# Altium footprint library SG__PCB_HOLEs.PcbLib: 39 footprints (part 3 of 3)
Each footprint in its own frame and in the unit in brackets; x right, y up, seen from the top. Pads: shape width x height; smd on the part's side, far side on the other; paste and mask are expansions set on the pad; w line width, h text height; cw(c..) or ccw(c..) is an arc to the next point about the centre after c.
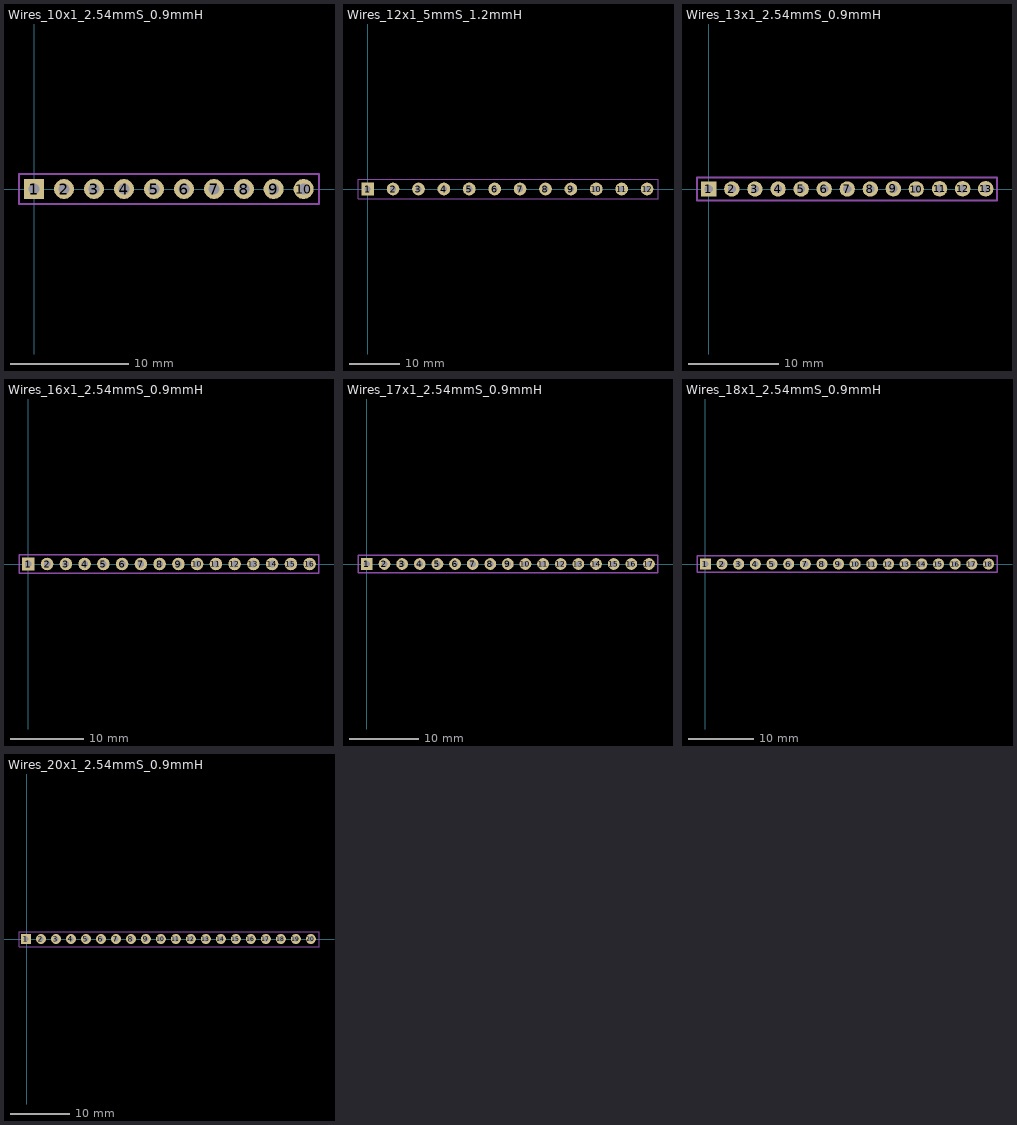
[diagram p2: the footprints below, top view; thin cyan lines are the x and y axes]

## Wires_10x1_2.54mmS_0.9mmH [mm]
pads (10):
  rect 1.7x1.7 hole 0.9: 1(0,0)
  round 1.7 hole 0.9: 2(2.54,0) 3(5.08,0) 4(7.62,0) 5(10.16,0) 6(12.7,0) 7(15.24,0) 8(17.78,0) 9(20.29,0) 10(22.83,0)
Top Courtyard:
  lines w0.2: -1.27,-1.27 24.13,-1.27 24.13,1.27 -1.27,1.27 -1.27,-1.27

## Wires_12x1_5mmS_1.2mmH [mm] "Wires_AxB_XmmSpacing_YmmHole"
pads (12):
  rect 2.5x2.5 hole 1.2: 1(0,0)
  round 2.5 hole 1.2: 2(5,0) 3(10,0) 4(15,0) 5(20,0) 6(25,0) 7(30,0) 8(35,0) 9(40,0) 10(45,0) 11(50,0) 12(55,0)
Top Courtyard:
  lines w0.2: -1.905,-1.905 57.15,-1.905 57.15,1.905 -1.905,1.905 -1.905,-1.905

## Wires_13x1_2.54mmS_0.9mmH [mm]
pads (13):
  rect 1.7x1.7 hole 0.9: 1(0.03,0)
  round 1.7 hole 0.9: 2(2.57,0) 3(5.11,0) 4(7.65,0) 5(10.19,0) 6(12.73,0) 7(15.27,0) 8(17.81,0) 9(20.345,0.025) 10(22.86,0) 11(25.425,0.025) 12(27.965,0.025) 13(30.505,0.025)
Top Courtyard:
  lines w0.2: -1.27,-1.27 31.75,-1.27 31.75,1.27 -1.27,1.27 -1.27,-1.27

## Wires_16x1_2.54mmS_0.9mmH [mm]
pads (16):
  rect 1.7x1.7 hole 0.9 mask+0.05: 1(0,0)
  round 1.7 hole 0.9 mask+0.05: 2(2.54,0) 3(5.08,0) 4(7.62,0) 5(10.16,0) 6(12.7,0) 7(15.24,0) 8(17.78,0) 9(20.32,0) 10(22.86,0) 11(25.4,0) 12(27.94,0) 13(30.48,0) 14(33.02,0) 15(35.56,0) 16(38.1,0)
Top Courtyard:
  lines w0.2: -1.27,-1.27 39.37,-1.27 39.37,1.27 -1.27,1.27 -1.27,-1.27

## Wires_17x1_2.54mmS_0.9mmH [mm]
pads (17):
  rect 1.7x1.7 hole 0.9: 1(0,0)
  round 1.7 hole 0.9: 2(2.54,0) 3(5.08,0) 4(7.62,0) 5(10.16,0) 6(12.7,0) 7(15.24,0) 8(17.78,0) 9(20.29,0) 10(22.83,0) 11(25.37,0) 12(27.91,0) 13(30.45,0) 14(32.99,0) 15(35.53,0) 16(38.07,0) 17(40.61,0)
Top Courtyard:
  lines w0.2: -1.27,-1.27 41.91,-1.27 41.91,1.27 -1.27,1.27 -1.27,-1.27

## Wires_18x1_2.54mmS_0.9mmH [mm]
pads (18):
  rect 1.7x1.7 hole 0.9: 1(0,0)
  round 1.7 hole 0.9: 2(2.54,0) 3(5.08,0) 4(7.62,0) 5(10.16,0) 6(12.7,0) 7(15.24,0) 8(17.78,0) 9(20.29,0) 10(22.83,0) 11(25.37,0) 12(27.91,0) 13(30.45,0) 14(32.99,0) 15(35.53,0) 16(38.07,0) 17(40.61,0) 18(43.15,0)
Top Courtyard:
  lines w0.2: -1.27,-1.27 44.45,-1.27 44.45,1.27 -1.27,1.27 -1.27,-1.27

## Wires_20x1_2.54mmS_0.9mmH [mm]
pads (20):
  rect 1.7x1.7 hole 0.9: 1(-0.09,0)
  round 1.7 hole 0.9: 2(2.45,0) 3(4.99,0) 4(7.53,0) 5(10.07,0) 6(12.61,0) 7(15.15,0) 8(17.69,0) 9(20.2,0) 10(22.74,0) 11(25.28,0) 12(27.82,0) 13(30.36,0) 14(32.9,0) 15(35.44,0) 16(37.98,0) 17(40.52,0) 18(43.06,0) 19(45.6,0) 20(48.14,0)
Top Courtyard:
  lines w0.2: -1.27,-1.27 49.53,-1.27 49.53,1.27 -1.27,1.27 -1.27,-1.27